# EAGLE library part 74**02 (library MyLibrary)
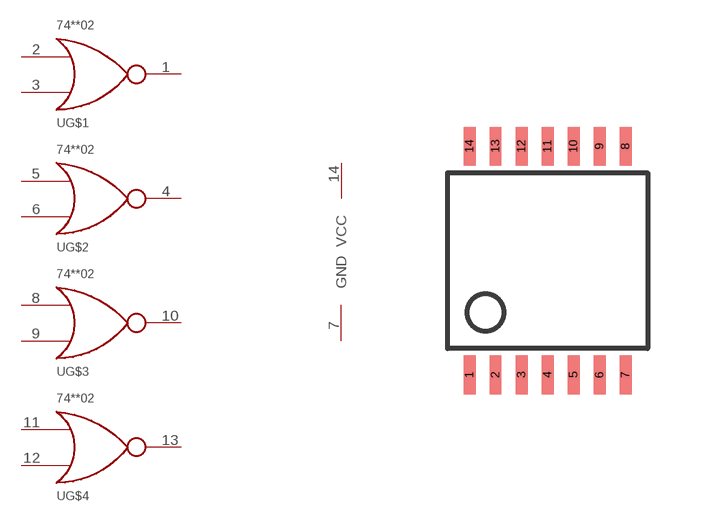
[diagram p18: symbol with the pads of TSSOP14; footprint TSSOP14]

Designator prefix -; gates G$1=NOR G$2=NOR G$3=NOR G$4=NOR G$5=POWER

## 7402  [TSSOP14]
1  G$1:Y
2  G$1:A
3  G$1:B
4  G$2:Y
5  G$2:A
6  G$2:B
7  G$5:GND
8  G$3:A
9  G$3:B
10  G$3:Y
11  G$4:A
12  G$4:B
13  G$4:Y
14  G$5:VCC

## Footprint TSSOP14 (pad centres in mm)
smd 0.3 x 0.97: 1 -1.95,-2.86; 2 -1.3,-2.86; 3 -0.65,-2.86; 4 0,-2.86; 5 0.65,-2.86; 6 1.3,-2.86; 7 1.95,-2.86; 8 1.95,2.86; 9 1.3,2.86; 10 0.65,2.86; 11 0,2.86; 12 -0.65,2.86; 13 -1.3,2.86; 14 -1.95,2.86